# Altium integrated library ON Semi General Purpose Transistors.IntLib: 1679 symbols (part 10 of 36)
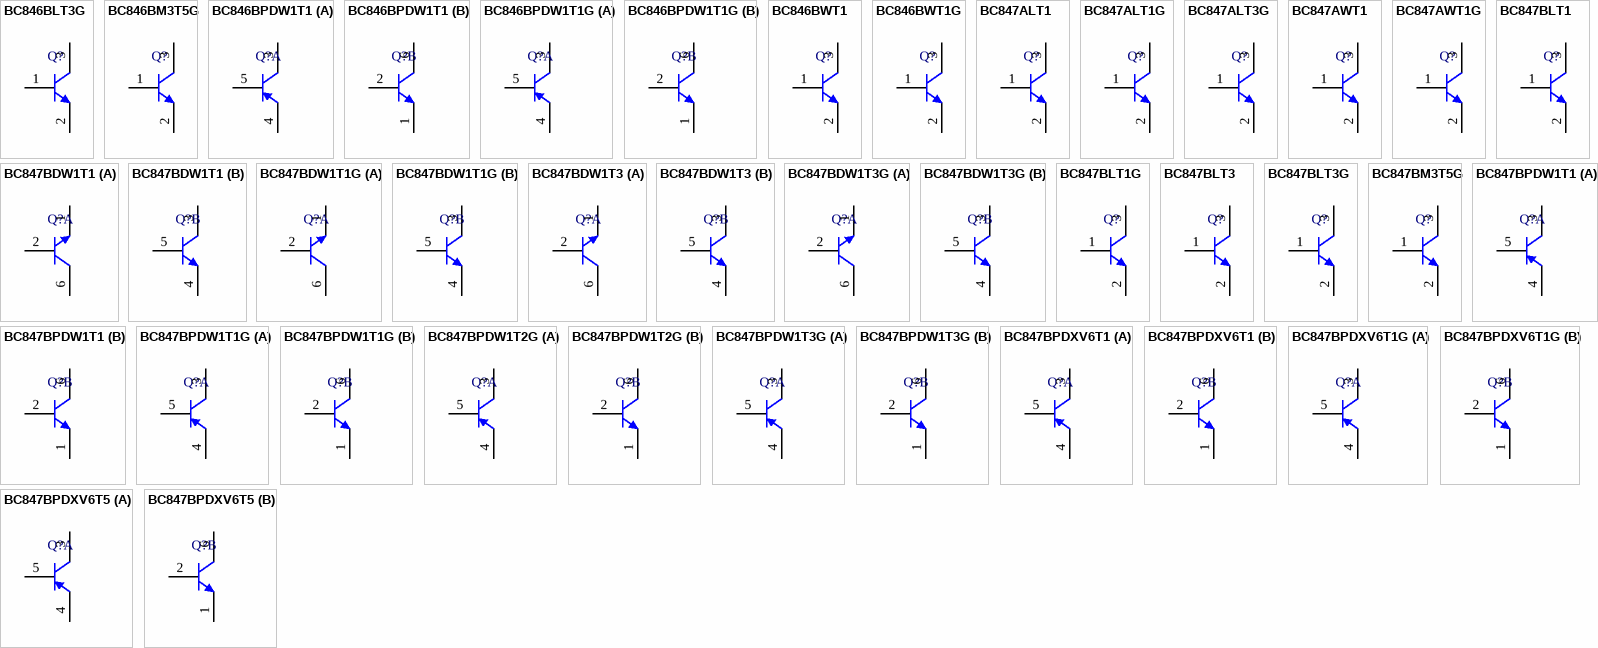
[diagram p54: symbols BC846BLT3G to BC847BPDXV6T5]

## BC846BWT1
designator Q?
General Purpose Transistor, NPN Silicon, 3-Pin SC70, Tape and Reel; Manufacturer: On Semiconductor; PartNumber: BC846BWT1; Note: 0; fT Min (MHz): 100; IC Continuous (A): 0.1; DatasheetVersion: Rev. 9; PackageVersion: Rev. N, 11/2008; PackageReference: SC-70-3-419-04; PackageDescription: 3-Pin Small Outline Transistor, Body 2 x 1.25 mm, Pitch 0.65 mm; Packing: Tape and Reel; Polarity: NPN; RoHS: FALSE; Mounting Technology: Surface Mount; ComponentLink1Description: Manufacturer URL; ComponentLink1URL: http://www.onsemi.com/; ComponentLink2Description: Datasheet; ComponentLink2URL: http://www.onsemi.cn/pub_link/Collateral/BC846AWT1-D.PDF; ComponentLink3Description: Package Specification; ComponentLink3URL: http://www.onsemi.cn/pub_link/Collateral/419-04.PDF
footprint ONSC-SC-70-3-419-04_V (SOT23, 3-Leads, Body 2x1.25mm, Pitch 0.65mm)
pins: 1 B, 2 E, 3 C

## BC846BWT1G
designator Q?
General Purpose Transistor, NPN Silicon, 3-Pin SC70, Pb-Free, Tape and Reel; Manufacturer: On Semiconductor; PartNumber: BC846BWT1G; fT Min (MHz): 100; IC Continuous (A): 0.1; DatasheetVersion: Rev. 9; PackageVersion: Rev. N, 11/2008; PackageReference: SC-70-3-419-04; PackageDescription: 3-Pin Small Outline Transistor, Body 2 x 1.25 mm, Pitch 0.65 mm; Supplier 1: Digi-Key; Supplier Part Number 1: BC846BWT1GOSTR-ND; Supplier 2: Digi-Key; Supplier Part Number 2: BC846BWT1GOSCT-ND; Supplier 3: Digi-Key; Supplier Part Number 3: BC846BWT1GOSDKR-ND; Supplier 4: Farnell; Supplier Part Number 4: 2317836; Supplier 5: Farnell; Supplier Part Number 5: 1653606RL; Supplier 6: Farnell; Supplier Part Number 6: 1653606; Supplier 7: Mouser; Supplier Part Number 7: 863-BC846BWT1G; Packing: Tape and Reel; Polarity: NPN; RoHS: TRUE; Mounting Technology: Surface Mount; ComponentLink1Description: Manufacturer URL; ComponentLink1URL: http://www.onsemi.com/; ComponentLink2Description: Datasheet; ComponentLink2URL: http://www.onsemi.cn/pub_link/Collateral/BC846AWT1-D.PDF; ComponentLink3Description: Package Specification; ComponentLink3URL: http://www.onsemi.cn/pub_link/Collateral/419-04.PDF
footprint ONSC-SC-70-3-419-04_V (SOT23, 3-Leads, Body 2x1.25mm, Pitch 0.65mm)
pins: 1 B, 2 E, 3 C

## BC847ALT1
designator Q?
General Purpose Transistor, NPN Silicon, 3-Pin SOT-23, Tape and Reel; Manufacturer: On Semiconductor; PartNumber: BC847ALT1; fT Min (MHz): 100; IC Continuous (A): 0.1; DatasheetVersion: Rev. 11; PackageVersion: Rev. AP, 11/2009; PackageReference: SOT-23-3-318-08; PackageDescription: 3-Pin Small Outline Transistor, Body 2.92 x 1.3 mm, Pitch 0.95 mm; Supplier 1: Digi-Key; Supplier Part Number 1: BC847ALT1OSCT-ND; Packing: Tape and Reel; Polarity: NPN; RoHS: FALSE; Mounting Technology: Surface Mount; ComponentLink1Description: Manufacturer URL; ComponentLink1URL: http://www.onsemi.com/; ComponentLink2Description: Datasheet; ComponentLink2URL: http://www.onsemi.cn/pub_link/Collateral/BC846ALT1-D.PDF; ComponentLink3Description: Package Specification; ComponentLink3URL: http://www.onsemi.cn/pub_link/Collateral/318-08.PDF
footprint ONSC-SOT-23-3-318-08_V (SOT23, 3-Leads, Body 2.92x1.3mm, Pitch 0.95mm)
pins: 1 B, 2 E, 3 C

## BC847ALT1G
designator Q?
General Purpose Transistor, NPN Silicon, 3-Pin SOT-23, Pb-Free, Tape and Reel; Manufacturer: On Semiconductor; PartNumber: BC847ALT1G; fT Min (MHz): 100; IC Continuous (A): 0.1; DatasheetVersion: Rev. 11; PackageVersion: Rev. AP, 11/2009; PackageReference: SOT-23-3-318-08; PackageDescription: 3-Pin Small Outline Transistor, Body 2.92 x 1.3 mm, Pitch 0.95 mm; Supplier 1: Digi-Key; Supplier Part Number 1: BC847ALT1GOSTR-ND; Supplier 2: Digi-Key; Supplier Part Number 2: BC847ALT1GOSCT-ND; Supplier 3: Digi-Key; Supplier Part Number 3: BC847ALT1GOSDKR-ND; Supplier 4: Farnell; Supplier Part Number 4: 2317842; Supplier 5: Farnell; Supplier Part Number 5: 1459037RL; Supplier 6: Farnell; Supplier Part Number 6: 1459037; Supplier 7: Newark; Supplier Part Number 7: 85W3115; Supplier 8: Newark; Supplier Part Number 8: 45J0589; Supplier 9: Mouser; Supplier Part Number 9: 863-BC847ALT1G; Packing: Tape and Reel; Polarity: NPN; RoHS: TRUE; Mounting Technology: Surface Mount; ComponentLink1Description: Manufacturer URL; ComponentLink1URL: http://www.onsemi.com/; ComponentLink2Description: Datasheet; ComponentLink2URL: http://www.onsemi.cn/pub_link/Collateral/BC846ALT1-D.PDF; ComponentLink3Description: Package Specification; ComponentLink3URL: http://www.onsemi.cn/pub_link/Collateral/318-08.PDF
footprint ONSC-SOT-23-3-318-08_V (SOT23, 3-Leads, Body 2.92x1.3mm, Pitch 0.95mm)
pins: 1 B, 2 E, 3 C

## BC847ALT3G
designator Q?
General Purpose Transistor, NPN Silicon, 3-Pin SOT-23, Pb-Free, Tape and Reel; Manufacturer: On Semiconductor; PartNumber: BC847ALT3G; Note: 0; fT Min (MHz): 100; IC Continuous (A): 0.1; DatasheetVersion: Rev. 11; PackageVersion: Rev. AP, 11/2009; PackageReference: SOT-23-3-318-08; PackageDescription: 3-Pin Small Outline Transistor, Body 2.92 x 1.3 mm, Pitch 0.95 mm; Packing: Tape and Reel; Polarity: NPN; RoHS: TRUE; Mounting Technology: Surface Mount; ComponentLink1Description: Manufacturer URL; ComponentLink1URL: http://www.onsemi.com/; ComponentLink2Description: Datasheet; ComponentLink2URL: http://www.onsemi.cn/pub_link/Collateral/BC846ALT1-D.PDF; ComponentLink3Description: Package Specification; ComponentLink3URL: http://www.onsemi.cn/pub_link/Collateral/318-08.PDF
footprint ONSC-SOT-23-3-318-08_V (SOT23, 3-Leads, Body 2.92x1.3mm, Pitch 0.95mm)
pins: 1 B, 2 E, 3 C

## BC847AWT1
designator Q?
General Purpose Transistor, NPN Silicon, 3-Pin SC70, Tape and Reel; Manufacturer: On Semiconductor; PartNumber: BC847AWT1; Note: 0; fT Min (MHz): 100; IC Continuous (A): 0.1; DatasheetVersion: Rev. 9; PackageVersion: Rev. N, 11/2008; PackageReference: SC-70-3-419-04; PackageDescription: 3-Pin Small Outline Transistor, Body 2 x 1.25 mm, Pitch 0.65 mm; Packing: Tape and Reel; Polarity: NPN; RoHS: FALSE; Mounting Technology: Surface Mount; ComponentLink1Description: Manufacturer URL; ComponentLink1URL: http://www.onsemi.com/; ComponentLink2Description: Datasheet; ComponentLink2URL: http://www.onsemi.cn/pub_link/Collateral/BC846AWT1-D.PDF; ComponentLink3Description: Package Specification; ComponentLink3URL: http://www.onsemi.cn/pub_link/Collateral/419-04.PDF
footprint ONSC-SC-70-3-419-04_V (SOT23, 3-Leads, Body 2x1.25mm, Pitch 0.65mm)
pins: 1 B, 2 E, 3 C

## BC847AWT1G
designator Q?
General Purpose Transistor, NPN Silicon, 3-Pin SC70, Pb-Free, Tape and Reel; Manufacturer: On Semiconductor; PartNumber: BC847AWT1G; fT Min (MHz): 100; IC Continuous (A): 0.1; DatasheetVersion: Rev. 9; PackageVersion: Rev. N, 11/2008; PackageReference: SC-70-3-419-04; PackageDescription: 3-Pin Small Outline Transistor, Body 2 x 1.25 mm, Pitch 0.65 mm; Supplier 1: Digi-Key; Supplier Part Number 1: BC847AWT1GOSTR-ND; Supplier 2: Digi-Key; Supplier Part Number 2: BC847AWT1GOSCT-ND; Supplier 3: Digi-Key; Supplier Part Number 3: BC847AWT1GOSDKR-ND; Supplier 4: Farnell; Supplier Part Number 4: 1260803; Supplier 5: Newark; Supplier Part Number 5: 45J0590; Supplier 6: Mouser; Supplier Part Number 6: 863-BC847AWT1G; Packing: Tape and Reel; Polarity: NPN; RoHS: TRUE; Mounting Technology: Surface Mount; ComponentLink1Description: Manufacturer URL; ComponentLink1URL: http://www.onsemi.com/; ComponentLink2Description: Datasheet; ComponentLink2URL: http://www.onsemi.cn/pub_link/Collateral/BC846AWT1-D.PDF; ComponentLink3Description: Package Specification; ComponentLink3URL: http://www.onsemi.cn/pub_link/Collateral/419-04.PDF
footprint ONSC-SC-70-3-419-04_V (SOT23, 3-Leads, Body 2x1.25mm, Pitch 0.65mm)
pins: 1 B, 2 E, 3 C

## BC847BDW1T1
designator Q?
Dual General Purpose Transistors, NPN, 6-Pin SOT-363, Tape and Reel; Manufacturer: On Semiconductor; PartNumber: BC847BDW1T1; Note: 0; fT Min (MHz): 100; IC Continuous (A): 0.1; Polarity: Dual NPN; DatasheetVersion: Rev. 9; PackageVersion: Rev. W, 01/2006; PackageReference: SOT-363-6-419B-02_W; PackageDescription: 6-Pin Small Outline Transistor, Body 2 x 1.25 mm, Pitch 0.65 mm; Packing: Tape and Reel; RoHS: FALSE; Mounting Technology: Surface Mount; ComponentLink1Description: Manufacturer URL; ComponentLink1URL: http://www.onsemi.com/; ComponentLink2Description: Datasheet; ComponentLink2URL: http://www.onsemi.cn/pub_link/Collateral/BC846BDW1T1-D.PDF; ComponentLink3Description: Package Specification; ComponentLink3URL: http://www.onsemi.com/pub_link/Collateral/NTJD4001N-D.PDF
footprint ONSC-SOT-363-6-419B-02_W_V (SOT23, 6-Leads, Body 2x1.25mm, Pitch 0.65mm)
part A pins: 1 E, 2 B, 6 C
part B pins: 3 C, 4 E, 5 B

## BC847BDW1T1G
designator Q?
Dual General Purpose Transistors, NPN, 6-Pin SOT-363, Pb-Free, Tape and Reel; Manufacturer: On Semiconductor; PartNumber: BC847BDW1T1G; fT Min (MHz): 100; IC Continuous (A): 0.1; Polarity: Dual NPN; DatasheetVersion: Rev. 9; PackageVersion: Rev. W, 01/2006; PackageReference: SOT-363-6-419B-02_W; PackageDescription: 6-Pin Small Outline Transistor, Body 2 x 1.25 mm, Pitch 0.65 mm; Supplier 1: Digi-Key; Supplier Part Number 1: BC847BDW1T1GOSTR-ND; Supplier 2: Digi-Key; Supplier Part Number 2: BC847BDW1T1GOSCT-ND; Supplier 3: Digi-Key; Supplier Part Number 3: BC847BDW1T1GOSDKR-ND; Supplier 4: Farnell; Supplier Part Number 4: 2317919; Supplier 5: Farnell; Supplier Part Number 5: 2101801; Supplier 6: Mouser; Supplier Part Number 6: 863-BC847BDW1T1G; Packing: Tape and Reel; RoHS: TRUE; Mounting Technology: Surface Mount; ComponentLink1Description: Manufacturer URL; ComponentLink1URL: http://www.onsemi.com/; ComponentLink2Description: Datasheet; ComponentLink2URL: http://www.onsemi.cn/pub_link/Collateral/BC846BDW1T1-D.PDF; ComponentLink3Description: Package Specification; ComponentLink3URL: http://www.onsemi.com/pub_link/Collateral/NTJD4001N-D.PDF
footprint ONSC-SOT-363-6-419B-02_W_V (SOT23, 6-Leads, Body 2x1.25mm, Pitch 0.65mm)
part A pins: 1 E, 2 B, 6 C
part B pins: 3 C, 4 E, 5 B

## BC847BDW1T3
designator Q?
Dual General Purpose Transistors, NPN, 6-Pin SOT-363, Tape and Reel; Manufacturer: On Semiconductor; PartNumber: BC847BDW1T3; Note: 0; fT Min (MHz): 100; IC Continuous (A): 0.1; Polarity: Dual NPN; DatasheetVersion: Rev. 9; PackageVersion: Rev. W, 01/2006; PackageReference: SOT-363-6-419B-02_W; PackageDescription: 6-Pin Small Outline Transistor, Body 2 x 1.25 mm, Pitch 0.65 mm; Packing: Tape and Reel; RoHS: FALSE; Mounting Technology: Surface Mount; ComponentLink1Description: Manufacturer URL; ComponentLink1URL: http://www.onsemi.com/; ComponentLink2Description: Datasheet; ComponentLink2URL: http://www.onsemi.cn/pub_link/Collateral/BC846BDW1T1-D.PDF; ComponentLink3Description: Package Specification; ComponentLink3URL: http://www.onsemi.com/pub_link/Collateral/NTJD4001N-D.PDF
footprint ONSC-SOT-363-6-419B-02_W_V (SOT23, 6-Leads, Body 2x1.25mm, Pitch 0.65mm)
part A pins: 1 E, 2 B, 6 C
part B pins: 3 C, 4 E, 5 B

## BC847BDW1T3G
designator Q?
Dual General Purpose Transistors, NPN, 6-Pin SOT-363, Pb-Free, Tape and Reel; Manufacturer: On Semiconductor; PartNumber: BC847BDW1T3G; fT Min (MHz): 100; IC Continuous (A): 0.1; Polarity: Dual NPN; DatasheetVersion: Rev. 9; PackageVersion: Rev. W, 01/2006; PackageReference: SOT-363-6-419B-02_W; PackageDescription: 6-Pin Small Outline Transistor, Body 2 x 1.25 mm, Pitch 0.65 mm; Supplier 1: Digi-Key; Supplier Part Number 1: BC847BDW1T3GOSTR-ND; Supplier 2: Digi-Key; Supplier Part Number 2: BC847BDW1T3GOSCT-ND; Supplier 3: Digi-Key; Supplier Part Number 3: BC847BDW1T3GOSDKR-ND; Supplier 4: Newark; Supplier Part Number 4: 41K9604; Supplier 5: Mouser; Supplier Part Number 5: 863-BC847BDW1T3G; Packing: Tape and Reel; RoHS: TRUE; Mounting Technology: Surface Mount; ComponentLink1Description: Manufacturer URL; ComponentLink1URL: http://www.onsemi.com/; ComponentLink2Description: Datasheet; ComponentLink2URL: http://www.onsemi.cn/pub_link/Collateral/BC846BDW1T1-D.PDF; ComponentLink3Description: Package Specification; ComponentLink3URL: http://www.onsemi.com/pub_link/Collateral/NTJD4001N-D.PDF
footprint ONSC-SOT-363-6-419B-02_W_V (SOT23, 6-Leads, Body 2x1.25mm, Pitch 0.65mm)
part A pins: 1 E, 2 B, 6 C
part B pins: 3 C, 4 E, 5 B

## BC847BLT1
designator Q?
General Purpose Transistor, NPN Silicon, 3-Pin SOT-23, Tape and Reel; Manufacturer: On Semiconductor; PartNumber: BC847BLT1; fT Min (MHz): 100; IC Continuous (A): 0.1; DatasheetVersion: Rev. 11; PackageVersion: Rev. AP, 11/2009; PackageReference: SOT-23-3-318-08; PackageDescription: 3-Pin Small Outline Transistor, Body 2.92 x 1.3 mm, Pitch 0.95 mm; Supplier 1: Digi-Key; Supplier Part Number 1: BC847BLT1OSCT-ND; Packing: Tape and Reel; Polarity: NPN; RoHS: FALSE; Mounting Technology: Surface Mount; ComponentLink1Description: Manufacturer URL; ComponentLink1URL: http://www.onsemi.com/; ComponentLink2Description: Datasheet; ComponentLink2URL: http://www.onsemi.cn/pub_link/Collateral/BC846ALT1-D.PDF; ComponentLink3Description: Package Specification; ComponentLink3URL: http://www.onsemi.cn/pub_link/Collateral/318-08.PDF
footprint ONSC-SOT-23-3-318-08_V (SOT23, 3-Leads, Body 2.92x1.3mm, Pitch 0.95mm)
pins: 1 B, 2 E, 3 C

## BC847BLT1G
designator Q?
General Purpose Transistor, NPN Silicon, 3-Pin SOT-23, Pb-Free, Tape and Reel; Manufacturer: On Semiconductor; PartNumber: BC847BLT1G; fT Min (MHz): 100; IC Continuous (A): 0.1; DatasheetVersion: Rev. 11; PackageVersion: Rev. AP, 11/2009; PackageReference: SOT-23-3-318-08; PackageDescription: 3-Pin Small Outline Transistor, Body 2.92 x 1.3 mm, Pitch 0.95 mm; Supplier 1: Digi-Key; Supplier Part Number 1: BC847BLT1GOSTR-ND; Supplier 2: Digi-Key; Supplier Part Number 2: BC847BLT1GOSCT-ND; Supplier 3: Digi-Key; Supplier Part Number 3: BC847BLT1GOSDKR-ND; Supplier 4: Farnell; Supplier Part Number 4: 2317816; Supplier 5: Newark; Supplier Part Number 5: 67R1293; Supplier 6: Newark; Supplier Part Number 6: 88H4566; Supplier 7: Mouser; Supplier Part Number 7: 863-BC847BLT1G; Packing: Tape and Reel; Polarity: NPN; RoHS: TRUE; Mounting Technology: Surface Mount; ComponentLink1Description: Manufacturer URL; ComponentLink1URL: http://www.onsemi.com/; ComponentLink2Description: Datasheet; ComponentLink2URL: http://www.onsemi.cn/pub_link/Collateral/BC846ALT1-D.PDF; ComponentLink3Description: Package Specification; ComponentLink3URL: http://www.onsemi.cn/pub_link/Collateral/318-08.PDF
footprint ONSC-SOT-23-3-318-08_V (SOT23, 3-Leads, Body 2.92x1.3mm, Pitch 0.95mm)
pins: 1 B, 2 E, 3 C

## BC847BLT3
designator Q?
General Purpose Transistor, NPN Silicon, 3-Pin SOT-23, Tape and Reel; Manufacturer: On Semiconductor; PartNumber: BC847BLT3; fT Min (MHz): 100; IC Continuous (A): 0.1; DatasheetVersion: Rev. 11; PackageVersion: Rev. AP, 11/2009; PackageReference: SOT-23-3-318-08; PackageDescription: 3-Pin Small Outline Transistor, Body 2.92 x 1.3 mm, Pitch 0.95 mm; Supplier 1: Digi-Key; Supplier Part Number 1: BC847BLT3-ND; Packing: Tape and Reel; Polarity: NPN; RoHS: FALSE; Mounting Technology: Surface Mount; ComponentLink1Description: Manufacturer URL; ComponentLink1URL: http://www.onsemi.com/; ComponentLink2Description: Datasheet; ComponentLink2URL: http://www.onsemi.cn/pub_link/Collateral/BC846ALT1-D.PDF; ComponentLink3Description: Package Specification; ComponentLink3URL: http://www.onsemi.cn/pub_link/Collateral/318-08.PDF
footprint ONSC-SOT-23-3-318-08_V (SOT23, 3-Leads, Body 2.92x1.3mm, Pitch 0.95mm)
pins: 1 B, 2 E, 3 C

## BC847BLT3G
designator Q?
General Purpose Transistor, NPN Silicon, 3-Pin SOT-23, Pb-Free, Tape and Reel; Manufacturer: On Semiconductor; PartNumber: BC847BLT3G; fT Min (MHz): 100; IC Continuous (A): 0.1; DatasheetVersion: Rev. 11; PackageVersion: Rev. AP, 11/2009; PackageReference: SOT-23-3-318-08; PackageDescription: 3-Pin Small Outline Transistor, Body 2.92 x 1.3 mm, Pitch 0.95 mm; Supplier 1: Digi-Key; Supplier Part Number 1: BC847BLT3GOSTR-ND; Supplier 2: Digi-Key; Supplier Part Number 2: BC847BLT3GOSCT-ND; Supplier 3: Digi-Key; Supplier Part Number 3: BC847BLT3GOSDKR-ND; Supplier 4: Newark; Supplier Part Number 4: 88H4567; Supplier 5: Mouser; Supplier Part Number 5: 863-BC847BLT3G; Packing: Tape and Reel; Polarity: NPN; RoHS: TRUE; Mounting Technology: Surface Mount; ComponentLink1Description: Manufacturer URL; ComponentLink1URL: http://www.onsemi.com/; ComponentLink2Description: Datasheet; ComponentLink2URL: http://www.onsemi.cn/pub_link/Collateral/BC846ALT1-D.PDF; ComponentLink3Description: Package Specification; ComponentLink3URL: http://www.onsemi.cn/pub_link/Collateral/318-08.PDF
footprint ONSC-SOT-23-3-318-08_V (SOT23, 3-Leads, Body 2.92x1.3mm, Pitch 0.95mm)
pins: 1 B, 2 E, 3 C

## BC847BM3T5G
designator Q?
General Purpose Transistor, NPN Silicon, 3-Pin SOT-723, Pb-Free, Tape and Reel; Manufacturer: On Semiconductor; PartNumber: BC847BM3T5G; fT Min (MHz): 100; IC Continuous (A): 0.1; DatasheetVersion: Rev. 0; PackageVersion: Rev. C, 08/2006; PackageReference: SOT-723-3-631AA-01_C; PackageDescription: 3-Pin SOT223, Body 0.8 x 1.2 mm, Pitch 0.4 mm; Supplier 1: Digi-Key; Supplier Part Number 1: BC847BM3T5GOSTR-ND; Supplier 2: Digi-Key; Supplier Part Number 2: BC847BM3T5GOSCT-ND; Supplier 3: Digi-Key; Supplier Part Number 3: BC847BM3T5GOSDKR-ND; Supplier 4: Newark; Supplier Part Number 4: 55M8733; Supplier 5: Mouser; Supplier Part Number 5: 863-BC847BM3T5G; Packing: Tape and Reel; Polarity: NPN; RoHS: TRUE; Mounting Technology: Surface Mount; ComponentLink1Description: Manufacturer URL; ComponentLink1URL: http://www.onsemi.com/; ComponentLink2Description: Datasheet; ComponentLink2URL: http://www.onsemi.com/pub_link/Collateral/BC847BM3-D.PDF; ComponentLink3Description: Package Specification; ComponentLink3URL: http://www.onsemi.cn/pub_link/Collateral/BAT54M3-D.PDF
footprint ONSC-SOT-723-3-631AA-01_C_V (SOT23, 3-Leads, Body 1.25x0.85mm, Pitch 0.4mm)
pins: 1 B, 2 E, 3 C

## BC847BPDW1T1
designator Q?
Dual General Purpose Transistors, NPN / PNP (Complementary), 6-Pin SOT-363, Tape and Reel; Manufacturer: On Semiconductor; PartNumber: BC847BPDW1T1; Note: 0; fT Min (MHz): 100; IC Continuous (A): 0.1; DatasheetVersion: Rev. 9; PackageVersion: Rev. Y, 12/2012; PackageReference: SOT-363-6-419B-02; PackageDescription: 6-Pin Small Outline Transistor, Body 2 x 1.25 mm, Pitch 0.65 mm; Packing: Tape and Reel; Polarity: Complementary; RoHS: FALSE; Mounting Technology: Surface Mount; ComponentLink1Description: Manufacturer URL; ComponentLink1URL: http://www.onsemi.com/; ComponentLink2Description: Datasheet; ComponentLink2URL: http://www.onsemi.cn/pub_link/Collateral/BC846BPDW1T1-D.PDF; ComponentLink3Description: Package Specification; ComponentLink3URL: http://www.onsemi.cn/pub_link/Collateral/419B-02.PDF
footprint ONSC-SOT-363-6-419B-02_V (SOT23, 6-Leads, Body 2x1.25mm, Pitch 0.65mm)
part A pins: 3 C, 4 E, 5 B
part B pins: 1 E, 2 B, 6 C

## BC847BPDW1T1G
designator Q?
Dual General Purpose Transistors, NPN / PNP (Complementary), 6-Pin SOT-363, Pb-Free, Tape and Reel; Manufacturer: On Semiconductor; PartNumber: BC847BPDW1T1G; fT Min (MHz): 100; IC Continuous (A): 0.1; DatasheetVersion: Rev. 9; PackageVersion: Rev. Y, 12/2012; PackageReference: SOT-363-6-419B-02; PackageDescription: 6-Pin Small Outline Transistor, Body 2 x 1.25 mm, Pitch 0.65 mm; Supplier 1: Digi-Key; Supplier Part Number 1: BC847BPDW1T1GOSTR-ND; Supplier 2: Digi-Key; Supplier Part Number 2: BC847BPDW1T1GOSCT-ND; Supplier 3: Digi-Key; Supplier Part Number 3: BC847BPDW1T1GOSDKR-ND; Supplier 4: Newark; Supplier Part Number 4: 45J0592; Supplier 5: Mouser; Supplier Part Number 5: 863-BC847BPDW1T1G; Packing: Tape and Reel; Polarity: Complementary; RoHS: TRUE; Mounting Technology: Surface Mount; ComponentLink1Description: Manufacturer URL; ComponentLink1URL: http://www.onsemi.com/; ComponentLink2Description: Datasheet; ComponentLink2URL: http://www.onsemi.cn/pub_link/Collateral/BC846BPDW1T1-D.PDF; ComponentLink3Description: Package Specification; ComponentLink3URL: http://www.onsemi.cn/pub_link/Collateral/419B-02.PDF
footprint ONSC-SOT-363-6-419B-02_V (SOT23, 6-Leads, Body 2x1.25mm, Pitch 0.65mm)
part A pins: 3 C, 4 E, 5 B
part B pins: 1 E, 2 B, 6 C

## BC847BPDW1T2G
designator Q?
Dual General Purpose Transistors, NPN / PNP (Complementary), 6-Pin SOT-363, Pb-Free, Tape and Reel; Manufacturer: On Semiconductor; PartNumber: BC847BPDW1T2G; fT Min (MHz): 100; IC Continuous (A): 0.1; DatasheetVersion: Rev. 9; PackageVersion: Rev. Y, 12/2012; PackageReference: SOT-363-6-419B-02; PackageDescription: 6-Pin Small Outline Transistor, Body 2 x 1.25 mm, Pitch 0.65 mm; Supplier 1: Digi-Key; Supplier Part Number 1: BC847BPDW1T2G-ND; Supplier 2: Mouser; Supplier Part Number 2: 863-BC847BPDW1T2G; Packing: Tape and Reel; Polarity: Complementary; RoHS: TRUE; Mounting Technology: Surface Mount; ComponentLink1Description: Manufacturer URL; ComponentLink1URL: http://www.onsemi.com/; ComponentLink2Description: Datasheet; ComponentLink2URL: http://www.onsemi.cn/pub_link/Collateral/BC846BPDW1T1-D.PDF; ComponentLink3Description: Package Specification; ComponentLink3URL: http://www.onsemi.cn/pub_link/Collateral/419B-02.PDF
footprint ONSC-SOT-363-6-419B-02_V (SOT23, 6-Leads, Body 2x1.25mm, Pitch 0.65mm)
part A pins: 3 C, 4 E, 5 B
part B pins: 1 E, 2 B, 6 C

## BC847BPDW1T3G
designator Q?
Dual General Purpose Transistors, NPN / PNP (Complementary), 6-Pin SOT-363, Pb-Free, Tape and Reel; Manufacturer: On Semiconductor; PartNumber: BC847BPDW1T3G; fT Min (MHz): 100; IC Continuous (A): 0.1; DatasheetVersion: Rev. 9; PackageVersion: Rev. Y, 12/2012; PackageReference: SOT-363-6-419B-02; PackageDescription: 6-Pin Small Outline Transistor, Body 2 x 1.25 mm, Pitch 0.65 mm; Supplier 1: Digi-Key; Supplier Part Number 1: BC847BPDW1T3G-ND; Supplier 2: Mouser; Supplier Part Number 2: 863-BC847BPDW1T3G; Packing: Tape and Reel; Polarity: Complementary; RoHS: TRUE; Mounting Technology: Surface Mount; ComponentLink1Description: Manufacturer URL; ComponentLink1URL: http://www.onsemi.com/; ComponentLink2Description: Datasheet; ComponentLink2URL: http://www.onsemi.cn/pub_link/Collateral/BC846BPDW1T1-D.PDF; ComponentLink3Description: Package Specification; ComponentLink3URL: http://www.onsemi.cn/pub_link/Collateral/419B-02.PDF
footprint ONSC-SOT-363-6-419B-02_V (SOT23, 6-Leads, Body 2x1.25mm, Pitch 0.65mm)
part A pins: 3 C, 4 E, 5 B
part B pins: 1 E, 2 B, 6 C

## BC847BPDXV6T1
designator Q?
NPN / PNP Dual General Purpose Transistors, 6-Pin SOT-563, Pb-Free, Tape and Reel; Manufacturer: On Semiconductor; PartNumber: BC847BPDXV6T1; fT Min (MHz): 100; IC Continuous (A): 0.1; Polarity: Complementary; DatasheetVersion: Rev. 2; PackageVersion: Rev. F, 04/2005; PackageReference: SOT-563-6-463A-01; PackageDescription: 6-Pin Small Outline Transistor, Body 1.6 x 1.2 mm, Pitch 0.5 mm; Supplier 1: Digi-Key; Supplier Part Number 1: BC847BPDXV6T1OS-ND; Supplier 2: Mouser; Supplier Part Number 2: 863-BC847BPDXV6T1; Packing: Tape and Reel; RoHS: TRUE; Mounting Technology: Surface Mount; ComponentLink1Description: Manufacturer URL; ComponentLink1URL: http://www.onsemi.com/; ComponentLink2Description: Datasheet; ComponentLink2URL: http://www.onsemi.com/pub_link/Collateral/BC847BPDXV6T1-D.PDF; ComponentLink3Description: Package Specification; ComponentLink3URL: http://www.onsemi.cn/pub_link/Collateral/463A-01.PDF
footprint ONSC-SOT-563-6-463A-01_V (SOT23, 6-Leads, Body 1.6x1.2mm, Pitch 0.5mm)
part A pins: 3 C, 4 E, 5 B
part B pins: 1 E, 2 B, 6 C

## BC847BPDXV6T1G
designator Q?
NPN / PNP Dual General Purpose Transistors, 6-Pin SOT-563, Pb-Free, Tape and Reel; Manufacturer: On Semiconductor; PartNumber: BC847BPDXV6T1G; fT Min (MHz): 100; IC Continuous (A): 0.1; Polarity: Complementary; DatasheetVersion: Rev. 2; PackageVersion: Rev. F, 04/2005; PackageReference: SOT-563-6-463A-01; PackageDescription: 6-Pin Small Outline Transistor, Body 1.6 x 1.2 mm, Pitch 0.5 mm; Supplier 1: Digi-Key; Supplier Part Number 1: BC847BPDXV6T1GOSTR-ND; Supplier 2: Digi-Key; Supplier Part Number 2: BC847BPDXV6T1GOSCT-ND; Supplier 3: Digi-Key; Supplier Part Number 3: BC847BPDXV6T1GOSDKR-ND; Supplier 4: Newark; Supplier Part Number 4: 41K9605; Supplier 5: Mouser; Supplier Part Number 5: 863-BC847BPDXV6T1G; Packing: Tape and Reel; RoHS: TRUE; Mounting Technology: Surface Mount; ComponentLink1Description: Manufacturer URL; ComponentLink1URL: http://www.onsemi.com/; ComponentLink2Description: Datasheet; ComponentLink2URL: http://www.onsemi.com/pub_link/Collateral/BC847BPDXV6T1-D.PDF; ComponentLink3Description: Package Specification; ComponentLink3URL: http://www.onsemi.cn/pub_link/Collateral/463A-01.PDF
footprint ONSC-SOT-563-6-463A-01_V (SOT23, 6-Leads, Body 1.6x1.2mm, Pitch 0.5mm)
part A pins: 3 C, 4 E, 5 B
part B pins: 1 E, 2 B, 6 C

## BC847BPDXV6T5
designator Q?
NPN / PNP Dual General Purpose Transistors, 6-Pin SOT-563, Pb-Free, Tape and Reel; Manufacturer: On Semiconductor; PartNumber: BC847BPDXV6T5; fT Min (MHz): 100; IC Continuous (A): 0.1; Polarity: Complementary; DatasheetVersion: Rev. 2; PackageVersion: Rev. F, 04/2005; PackageReference: SOT-563-6-463A-01; PackageDescription: 6-Pin Small Outline Transistor, Body 1.6 x 1.2 mm, Pitch 0.5 mm; Supplier 1: Mouser; Supplier Part Number 1: 863-BC847BPDXV6T5; Packing: Tape and Reel; RoHS: TRUE; Mounting Technology: Surface Mount; ComponentLink1Description: Manufacturer URL; ComponentLink1URL: http://www.onsemi.com/; ComponentLink2Description: Datasheet; ComponentLink2URL: http://www.onsemi.com/pub_link/Collateral/BC847BPDXV6T1-D.PDF; ComponentLink3Description: Package Specification; ComponentLink3URL: http://www.onsemi.cn/pub_link/Collateral/463A-01.PDF
footprint ONSC-SOT-563-6-463A-01_V (SOT23, 6-Leads, Body 1.6x1.2mm, Pitch 0.5mm)
part A pins: 3 C, 4 E, 5 B
part B pins: 1 E, 2 B, 6 C

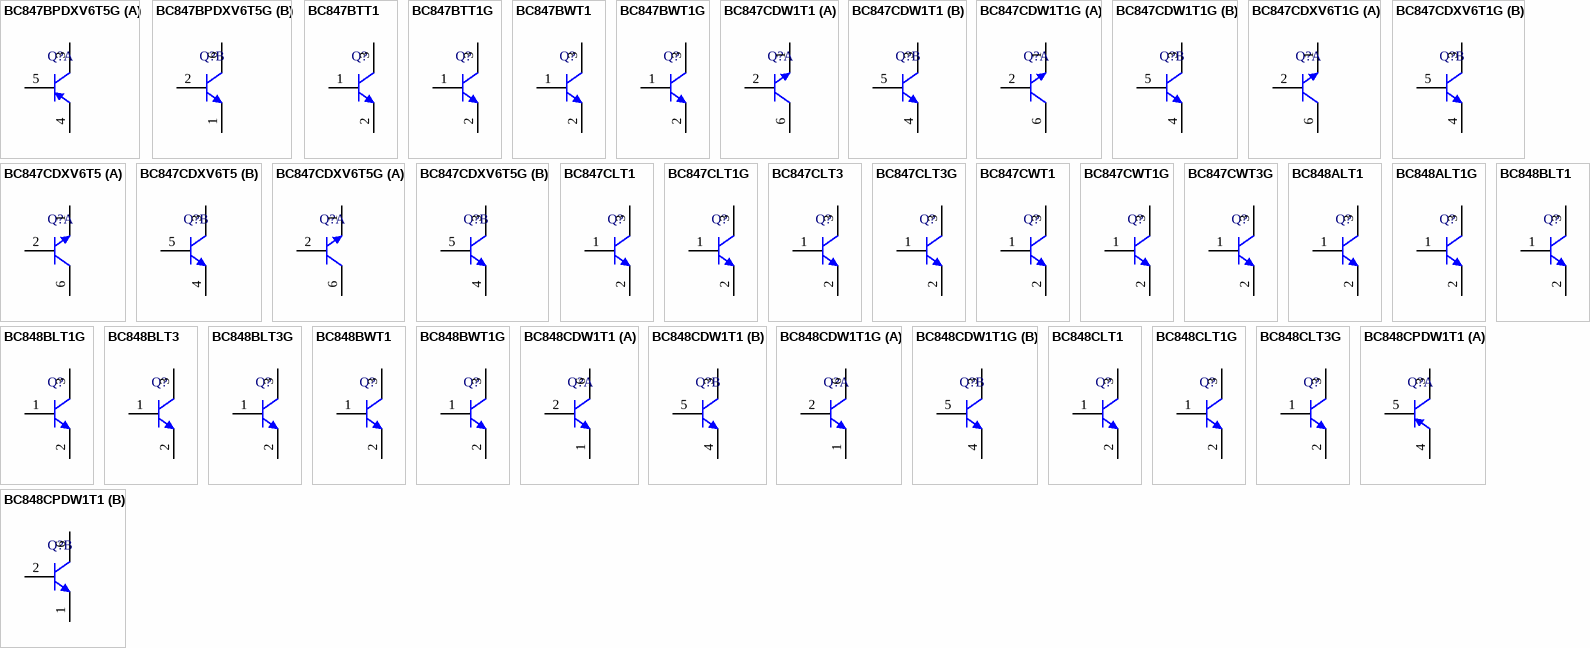
[diagram p12: symbols BC847BPDXV6T5G to BC848CPDW1T1]

## BC847BPDXV6T5G
designator Q?
NPN / PNP Dual General Purpose Transistors, 6-Pin SOT-563, Pb-Free, Tape and Reel; Manufacturer: On Semiconductor; PartNumber: BC847BPDXV6T5G; fT Min (MHz): 100; IC Continuous (A): 0.1; Polarity: Complementary; DatasheetVersion: Rev. 2; PackageVersion: Rev. F, 04/2005; PackageReference: SOT-563-6-463A-01; PackageDescription: 6-Pin Small Outline Transistor, Body 1.6 x 1.2 mm, Pitch 0.5 mm; Supplier 1: Digi-Key; Supplier Part Number 1: BC847BPDXV6T5G-ND; Supplier 2: Mouser; Supplier Part Number 2: 863-BC847BPDXV6T5G; Packing: Tape and Reel; RoHS: TRUE; Mounting Technology: Surface Mount; ComponentLink1Description: Manufacturer URL; ComponentLink1URL: http://www.onsemi.com/; ComponentLink2Description: Datasheet; ComponentLink2URL: http://www.onsemi.com/pub_link/Collateral/BC847BPDXV6T1-D.PDF; ComponentLink3Description: Package Specification; ComponentLink3URL: http://www.onsemi.cn/pub_link/Collateral/463A-01.PDF
footprint ONSC-SOT-563-6-463A-01_V (SOT23, 6-Leads, Body 1.6x1.2mm, Pitch 0.5mm)
part A pins: 3 C, 4 E, 5 B
part B pins: 1 E, 2 B, 6 C

## BC847BTT1
designator Q?
General Purpose Transistor, NPN Silicon, 3-Pin SC-75, Tape and Reel; Manufacturer: On Semiconductor; PartNumber: BC847BTT1; fT Min (MHz): 100; IC Continuous (A): 0.1; DatasheetVersion: Rev. 1; PackageVersion: Rev. C, 08/2003; PackageReference: SC-75-3-463-01_C; PackageDescription: 3-Pin Small Outline Transistor, Body 1.6 x 0.8 mm, Pitch 0.5 mm; Supplier 1: Digi-Key; Supplier Part Number 1: BC847BTT1OSTR-ND; Supplier 2: Digi-Key; Supplier Part Number 2: BC847BTT1OSCT-ND; Packing: Tape and Reel; Polarity: NPN; RoHS: FALSE; Mounting Technology: Surface Mount; ComponentLink1Description: Manufacturer URL; ComponentLink1URL: http://www.onsemi.com/; ComponentLink2Description: Datasheet; ComponentLink2URL: http://www.onsemi.cn/pub_link/Collateral/BC847ATT1-D.PDF; ComponentLink3Description: Package Specification; ComponentLink3URL: http://www.onsemi.com/pub_link/Collateral/BC847ATT1-D.PDF
footprint ONSC-SC-75-3-463-01_C_N (SOT23, 3-Leads, Body 1.8x0.9mm, Pitch 0.5mm, IPC Medium Density)
footprint ONSC-SC-75-3-463-01_C_L (SOT23, 3-Leads, Body 1.8x0.9mm, Pitch 0.5mm, IPC High Density)
footprint ONSC-SC-75-3-463-01_C_M (SOT23, 3-Leads, Body 1.8x0.9mm, Pitch 0.5mm, IPC Low Density)
pins: 1 B, 2 E, 3 C

## BC847BTT1G
designator Q?
General Purpose Transistor, NPN Silicon, 3-Pin SC-75, Pb-Free, Tape and Reel; Manufacturer: On Semiconductor; PartNumber: BC847BTT1G; fT Min (MHz): 100; IC Continuous (A): 0.1; DatasheetVersion: Rev. 1; PackageVersion: Rev. C, 08/2003; PackageReference: SC-75-3-463-01_C; PackageDescription: 3-Pin Small Outline Transistor, Body 1.6 x 0.8 mm, Pitch 0.5 mm; Supplier 1: Digi-Key; Supplier Part Number 1: BC847BTT1GOSTR-ND; Supplier 2: Digi-Key; Supplier Part Number 2: BC847BTT1GOSCT-ND; Supplier 3: Digi-Key; Supplier Part Number 3: BC847BTT1GOSDKR-ND; Supplier 4: Farnell; Supplier Part Number 4: 1705977; Supplier 5: Newark; Supplier Part Number 5: 50M2871; Supplier 6: Newark; Supplier Part Number 6: 45J0593; Supplier 7: Mouser; Supplier Part Number 7: 863-BC847BTT1G; Packing: Tape and Reel; Polarity: NPN; RoHS: TRUE; Mounting Technology: Surface Mount; ComponentLink1Description: Manufacturer URL; ComponentLink1URL: http://www.onsemi.com/; ComponentLink2Description: Datasheet; ComponentLink2URL: http://www.onsemi.cn/pub_link/Collateral/BC847ATT1-D.PDF; ComponentLink3Description: Package Specification; ComponentLink3URL: http://www.onsemi.com/pub_link/Collateral/BC847ATT1-D.PDF
footprint ONSC-SC-75-3-463-01_C_N (SOT23, 3-Leads, Body 1.8x0.9mm, Pitch 0.5mm, IPC Medium Density)
footprint ONSC-SC-75-3-463-01_C_L (SOT23, 3-Leads, Body 1.8x0.9mm, Pitch 0.5mm, IPC High Density)
footprint ONSC-SC-75-3-463-01_C_M (SOT23, 3-Leads, Body 1.8x0.9mm, Pitch 0.5mm, IPC Low Density)
pins: 1 B, 2 E, 3 C

## BC847BWT1
designator Q?
General Purpose Transistor, NPN Silicon, 3-Pin SC70, Tape and Reel; Manufacturer: On Semiconductor; PartNumber: BC847BWT1; Note: 0; fT Min (MHz): 100; IC Continuous (A): 0.1; DatasheetVersion: Rev. 9; PackageVersion: Rev. N, 11/2008; PackageReference: SC-70-3-419-04; PackageDescription: 3-Pin Small Outline Transistor, Body 2 x 1.25 mm, Pitch 0.65 mm; Packing: Tape and Reel; Polarity: NPN; RoHS: FALSE; Mounting Technology: Surface Mount; ComponentLink1Description: Manufacturer URL; ComponentLink1URL: http://www.onsemi.com/; ComponentLink2Description: Datasheet; ComponentLink2URL: http://www.onsemi.cn/pub_link/Collateral/BC846AWT1-D.PDF; ComponentLink3Description: Package Specification; ComponentLink3URL: http://www.onsemi.cn/pub_link/Collateral/419-04.PDF
footprint ONSC-SC-70-3-419-04_V (SOT23, 3-Leads, Body 2x1.25mm, Pitch 0.65mm)
pins: 1 B, 2 E, 3 C

## BC847BWT1G
designator Q?
General Purpose Transistor, NPN Silicon, 3-Pin SC70, Pb-Free, Tape and Reel; Manufacturer: On Semiconductor; PartNumber: BC847BWT1G; fT Min (MHz): 100; IC Continuous (A): 0.1; DatasheetVersion: Rev. 9; PackageVersion: Rev. N, 11/2008; PackageReference: SC-70-3-419-04; PackageDescription: 3-Pin Small Outline Transistor, Body 2 x 1.25 mm, Pitch 0.65 mm; Supplier 1: Digi-Key; Supplier Part Number 1: BC847BWT1GOSTR-ND; Supplier 2: Digi-Key; Supplier Part Number 2: BC847BWT1GOSCT-ND; Supplier 3: Digi-Key; Supplier Part Number 3: BC847BWT1GOSDKR-ND; Supplier 4: Farnell; Supplier Part Number 4: 2317899; Supplier 5: Farnell; Supplier Part Number 5: 1653703RL; Supplier 6: Farnell; Supplier Part Number 6: 1653703; Supplier 7: Newark; Supplier Part Number 7: 85W3116; Supplier 8: Newark; Supplier Part Number 8: 88H4568; Supplier 9: Mouser; Supplier Part Number 9: 863-BC847BWT1G; Packing: Tape and Reel; Polarity: NPN; RoHS: TRUE; Mounting Technology: Surface Mount; ComponentLink1Description: Manufacturer URL; ComponentLink1URL: http://www.onsemi.com/; ComponentLink2Description: Datasheet; ComponentLink2URL: http://www.onsemi.cn/pub_link/Collateral/BC846AWT1-D.PDF; ComponentLink3Description: Package Specification; ComponentLink3URL: http://www.onsemi.cn/pub_link/Collateral/419-04.PDF
footprint ONSC-SC-70-3-419-04_V (SOT23, 3-Leads, Body 2x1.25mm, Pitch 0.65mm)
pins: 1 B, 2 E, 3 C

## BC847CDW1T1
designator Q?
Dual General Purpose Transistors, NPN, 6-Pin SOT-363, Tape and Reel; Manufacturer: On Semiconductor; PartNumber: BC847CDW1T1; Note: 0; fT Min (MHz): 100; IC Continuous (A): 0.1; Polarity: Dual NPN; DatasheetVersion: Rev. 9; PackageVersion: Rev. W, 01/2006; PackageReference: SOT-363-6-419B-02_W; PackageDescription: 6-Pin Small Outline Transistor, Body 2 x 1.25 mm, Pitch 0.65 mm; Packing: Tape and Reel; RoHS: FALSE; Mounting Technology: Surface Mount; ComponentLink1Description: Manufacturer URL; ComponentLink1URL: http://www.onsemi.com/; ComponentLink2Description: Datasheet; ComponentLink2URL: http://www.onsemi.cn/pub_link/Collateral/BC846BDW1T1-D.PDF; ComponentLink3Description: Package Specification; ComponentLink3URL: http://www.onsemi.com/pub_link/Collateral/NTJD4001N-D.PDF
footprint ONSC-SOT-363-6-419B-02_W_V (SOT23, 6-Leads, Body 2x1.25mm, Pitch 0.65mm)
part A pins: 1 E, 2 B, 6 C
part B pins: 3 C, 4 E, 5 B

## BC847CDW1T1G
designator Q?
Dual General Purpose Transistors, NPN, 6-Pin SOT-363, Pb-Free, Tape and Reel; Manufacturer: On Semiconductor; PartNumber: BC847CDW1T1G; fT Min (MHz): 100; IC Continuous (A): 0.1; Polarity: Dual NPN; DatasheetVersion: Rev. 9; PackageVersion: Rev. W, 01/2006; PackageReference: SOT-363-6-419B-02_W; PackageDescription: 6-Pin Small Outline Transistor, Body 2 x 1.25 mm, Pitch 0.65 mm; Supplier 1: Digi-Key; Supplier Part Number 1: BC847CDW1T1GOSTR-ND; Supplier 2: Digi-Key; Supplier Part Number 2: BC847CDW1T1GOSCT-ND; Supplier 3: Digi-Key; Supplier Part Number 3: BC847CDW1T1GOSDKR-ND; Supplier 4: Farnell; Supplier Part Number 4: 1887071; Supplier 5: Newark; Supplier Part Number 5: 09R9378; Supplier 6: Mouser; Supplier Part Number 6: 863-BC847CDW1T1G; Packing: Tape and Reel; RoHS: TRUE; Mounting Technology: Surface Mount; ComponentLink1Description: Manufacturer URL; ComponentLink1URL: http://www.onsemi.com/; ComponentLink2Description: Datasheet; ComponentLink2URL: http://www.onsemi.cn/pub_link/Collateral/BC846BDW1T1-D.PDF; ComponentLink3Description: Package Specification; ComponentLink3URL: http://www.onsemi.com/pub_link/Collateral/NTJD4001N-D.PDF
footprint ONSC-SOT-363-6-419B-02_W_V (SOT23, 6-Leads, Body 2x1.25mm, Pitch 0.65mm)
part A pins: 1 E, 2 B, 6 C
part B pins: 3 C, 4 E, 5 B

## BC847CDXV6T1G
designator Q?
Dual General Purpose Transistors, NPN, 6-Pin SOT-563, Pb-Free, Tape and Reel; Manufacturer: On Semiconductor; PartNumber: BC847CDXV6T1G; fT Min (MHz): 100; IC Continuous (A): 0.1; Polarity: Dual NPN; DatasheetVersion: Rev. 4; PackageVersion: Rev. F, 04/2005; PackageReference: SOT-563-6-463A-01; PackageDescription: 6-Pin Small Outline Transistor, Body 1.6 x 1.2 mm, Pitch 0.5 mm; Supplier 1: Digi-Key; Supplier Part Number 1: BC847CDXV6T1GOSTR-ND; Supplier 2: Digi-Key; Supplier Part Number 2: BC847CDXV6T1GOSCT-ND; Supplier 3: Digi-Key; Supplier Part Number 3: BC847CDXV6T1GOSDKR-ND; Supplier 4: Newark; Supplier Part Number 4: 41K9607; Supplier 5: Mouser; Supplier Part Number 5: 863-BC847CDXV6T1G; Packing: Tape and Reel; RoHS: TRUE; Mounting Technology: Surface Mount; ComponentLink1Description: Manufacturer URL; ComponentLink1URL: http://www.onsemi.com/; ComponentLink2Description: Datasheet; ComponentLink2URL: http://www.onsemi.cn/pub_link/Collateral/BC847CDXV6T1-D.PDF; ComponentLink3Description: Package Specification; ComponentLink3URL: http://www.onsemi.cn/pub_link/Collateral/463A-01.PDF
footprint ONSC-SOT-563-6-463A-01_V (SOT23, 6-Leads, Body 1.6x1.2mm, Pitch 0.5mm)
part A pins: 1 E, 2 B, 6 C
part B pins: 3 C, 4 E, 5 B

## BC847CDXV6T5
designator Q?
Dual General Purpose Transistors, NPN, 6-Pin SOT-563, Pb-Free, Tape and Reel; Manufacturer: On Semiconductor; PartNumber: BC847CDXV6T5; fT Min (MHz): 100; IC Continuous (A): 0.1; Polarity: Dual NPN; DatasheetVersion: Rev. 4; PackageVersion: Rev. F, 04/2005; PackageReference: SOT-563-6-463A-01; PackageDescription: 6-Pin Small Outline Transistor, Body 1.6 x 1.2 mm, Pitch 0.5 mm; Supplier 1: Digi-Key; Supplier Part Number 1: BC847CDXV6T5OS-ND; Supplier 2: Mouser; Supplier Part Number 2: 863-BC847CDXV6T5; Packing: Tape and Reel; RoHS: TRUE; Mounting Technology: Surface Mount; ComponentLink1Description: Manufacturer URL; ComponentLink1URL: http://www.onsemi.com/; ComponentLink2Description: Datasheet; ComponentLink2URL: http://www.onsemi.cn/pub_link/Collateral/BC847CDXV6T1-D.PDF; ComponentLink3Description: Package Specification; ComponentLink3URL: http://www.onsemi.cn/pub_link/Collateral/463A-01.PDF
footprint ONSC-SOT-563-6-463A-01_V (SOT23, 6-Leads, Body 1.6x1.2mm, Pitch 0.5mm)
part A pins: 1 E, 2 B, 6 C
part B pins: 3 C, 4 E, 5 B

## BC847CDXV6T5G
designator Q?
Dual General Purpose Transistors, NPN, 6-Pin SOT-563, Pb-Free, Tape and Reel; Manufacturer: On Semiconductor; PartNumber: BC847CDXV6T5G; fT Min (MHz): 100; IC Continuous (A): 0.1; Polarity: Dual NPN; DatasheetVersion: Rev. 4; PackageVersion: Rev. F, 04/2005; PackageReference: SOT-563-6-463A-01; PackageDescription: 6-Pin Small Outline Transistor, Body 1.6 x 1.2 mm, Pitch 0.5 mm; Supplier 1: Digi-Key; Supplier Part Number 1: BC847CDXV6T5GOS-ND; Supplier 2: Mouser; Supplier Part Number 2: 863-BC847CDXV6T5G; Packing: Tape and Reel; RoHS: TRUE; Mounting Technology: Surface Mount; ComponentLink1Description: Manufacturer URL; ComponentLink1URL: http://www.onsemi.com/; ComponentLink2Description: Datasheet; ComponentLink2URL: http://www.onsemi.cn/pub_link/Collateral/BC847CDXV6T1-D.PDF; ComponentLink3Description: Package Specification; ComponentLink3URL: http://www.onsemi.cn/pub_link/Collateral/463A-01.PDF
footprint ONSC-SOT-563-6-463A-01_V (SOT23, 6-Leads, Body 1.6x1.2mm, Pitch 0.5mm)
part A pins: 1 E, 2 B, 6 C
part B pins: 3 C, 4 E, 5 B

## BC847CLT1
designator Q?
General Purpose Transistor, NPN Silicon, 3-Pin SOT-23, Tape and Reel; Manufacturer: On Semiconductor; PartNumber: BC847CLT1; fT Min (MHz): 100; IC Continuous (A): 0.1; DatasheetVersion: Rev. 11; PackageVersion: Rev. AP, 11/2009; PackageReference: SOT-23-3-318-08; PackageDescription: 3-Pin Small Outline Transistor, Body 2.92 x 1.3 mm, Pitch 0.95 mm; Supplier 1: Digi-Key; Supplier Part Number 1: BC847CLT1OSCT-ND; Packing: Tape and Reel; Polarity: NPN; RoHS: FALSE; Mounting Technology: Surface Mount; ComponentLink1Description: Manufacturer URL; ComponentLink1URL: http://www.onsemi.com/; ComponentLink2Description: Datasheet; ComponentLink2URL: http://www.onsemi.cn/pub_link/Collateral/BC846ALT1-D.PDF; ComponentLink3Description: Package Specification; ComponentLink3URL: http://www.onsemi.cn/pub_link/Collateral/318-08.PDF
footprint ONSC-SOT-23-3-318-08_V (SOT23, 3-Leads, Body 2.92x1.3mm, Pitch 0.95mm)
pins: 1 B, 2 E, 3 C

## BC847CLT1G
designator Q?
General Purpose Transistor, NPN Silicon, 3-Pin SOT-23, Pb-Free, Tape and Reel; Manufacturer: On Semiconductor; PartNumber: BC847CLT1G; fT Min (MHz): 100; IC Continuous (A): 0.1; DatasheetVersion: Rev. 11; PackageVersion: Rev. AP, 11/2009; PackageReference: SOT-23-3-318-08; PackageDescription: 3-Pin Small Outline Transistor, Body 2.92 x 1.3 mm, Pitch 0.95 mm; Supplier 1: Digi-Key; Supplier Part Number 1: BC847CLT1GOSTR-ND; Supplier 2: Digi-Key; Supplier Part Number 2: BC847CLT1GOSCT-ND; Supplier 3: Digi-Key; Supplier Part Number 3: BC847CLT1GOSDKR-ND; Supplier 4: Farnell; Supplier Part Number 4: 2317857; Supplier 5: Farnell; Supplier Part Number 5: 1459038RL; Supplier 6: Farnell; Supplier Part Number 6: 1459038; Supplier 7: Newark; Supplier Part Number 7: 88H4569; Supplier 8: Newark; Supplier Part Number 8: 85W3117; Supplier 9: Mouser; Supplier Part Number 9: 863-BC847CLT1G; Packing: Tape and Reel; Polarity: NPN; RoHS: TRUE; Mounting Technology: Surface Mount; ComponentLink1Description: Manufacturer URL; ComponentLink1URL: http://www.onsemi.com/; ComponentLink2Description: Datasheet; ComponentLink2URL: http://www.onsemi.cn/pub_link/Collateral/BC846ALT1-D.PDF; ComponentLink3Description: Package Specification; ComponentLink3URL: http://www.onsemi.cn/pub_link/Collateral/318-08.PDF
footprint ONSC-SOT-23-3-318-08_V (SOT23, 3-Leads, Body 2.92x1.3mm, Pitch 0.95mm)
pins: 1 B, 2 E, 3 C

## BC847CLT3
designator Q?
General Purpose Transistor, NPN Silicon, 3-Pin SOT-23, Tape and Reel; Manufacturer: On Semiconductor; PartNumber: BC847CLT3; Note: 0; fT Min (MHz): 100; IC Continuous (A): 0.1; DatasheetVersion: Rev. 11; PackageVersion: Rev. AP, 11/2009; PackageReference: SOT-23-3-318-08; PackageDescription: 3-Pin Small Outline Transistor, Body 2.92 x 1.3 mm, Pitch 0.95 mm; Packing: Tape and Reel; Polarity: NPN; RoHS: FALSE; Mounting Technology: Surface Mount; ComponentLink1Description: Manufacturer URL; ComponentLink1URL: http://www.onsemi.com/; ComponentLink2Description: Datasheet; ComponentLink2URL: http://www.onsemi.cn/pub_link/Collateral/BC846ALT1-D.PDF; ComponentLink3Description: Package Specification; ComponentLink3URL: http://www.onsemi.cn/pub_link/Collateral/318-08.PDF
footprint ONSC-SOT-23-3-318-08_V (SOT23, 3-Leads, Body 2.92x1.3mm, Pitch 0.95mm)
pins: 1 B, 2 E, 3 C

## BC847CLT3G
designator Q?
General Purpose Transistor, NPN Silicon, 3-Pin SOT-23, Pb-Free, Tape and Reel; Manufacturer: On Semiconductor; PartNumber: BC847CLT3G; fT Min (MHz): 100; IC Continuous (A): 0.1; DatasheetVersion: Rev. 11; PackageVersion: Rev. AP, 11/2009; PackageReference: SOT-23-3-318-08; PackageDescription: 3-Pin Small Outline Transistor, Body 2.92 x 1.3 mm, Pitch 0.95 mm; Supplier 1: Digi-Key; Supplier Part Number 1: BC847CLT3GOSTR-ND; Supplier 2: Digi-Key; Supplier Part Number 2: BC847CLT3GOSCT-ND; Supplier 3: Digi-Key; Supplier Part Number 3: BC847CLT3GOSDKR-ND; Supplier 4: Newark; Supplier Part Number 4: 88H4570; Supplier 5: Mouser; Supplier Part Number 5: 863-BC847CLT3G; Packing: Tape and Reel; Polarity: NPN; RoHS: TRUE; Mounting Technology: Surface Mount; ComponentLink1Description: Manufacturer URL; ComponentLink1URL: http://www.onsemi.com/; ComponentLink2Description: Datasheet; ComponentLink2URL: http://www.onsemi.cn/pub_link/Collateral/BC846ALT1-D.PDF; ComponentLink3Description: Package Specification; ComponentLink3URL: http://www.onsemi.cn/pub_link/Collateral/318-08.PDF
footprint ONSC-SOT-23-3-318-08_V (SOT23, 3-Leads, Body 2.92x1.3mm, Pitch 0.95mm)
pins: 1 B, 2 E, 3 C

## BC847CWT1
designator Q?
General Purpose Transistor, NPN Silicon, 3-Pin SC70, Tape and Reel; Manufacturer: On Semiconductor; PartNumber: BC847CWT1; fT Min (MHz): 100; IC Continuous (A): 0.1; DatasheetVersion: Rev. 9; PackageVersion: Rev. N, 11/2008; PackageReference: SC-70-3-419-04; PackageDescription: 3-Pin Small Outline Transistor, Body 2 x 1.25 mm, Pitch 0.65 mm; Supplier 1: Digi-Key; Supplier Part Number 1: BC847CWT1-ND; Packing: Tape and Reel; Polarity: NPN; RoHS: FALSE; Mounting Technology: Surface Mount; ComponentLink1Description: Manufacturer URL; ComponentLink1URL: http://www.onsemi.com/; ComponentLink2Description: Datasheet; ComponentLink2URL: http://www.onsemi.cn/pub_link/Collateral/BC846AWT1-D.PDF; ComponentLink3Description: Package Specification; ComponentLink3URL: http://www.onsemi.cn/pub_link/Collateral/419-04.PDF
footprint ONSC-SC-70-3-419-04_V (SOT23, 3-Leads, Body 2x1.25mm, Pitch 0.65mm)
pins: 1 B, 2 E, 3 C

## BC847CWT1G
designator Q?
General Purpose Transistor, NPN Silicon, 3-Pin SC70, Pb-Free, Tape and Reel; Manufacturer: On Semiconductor; PartNumber: BC847CWT1G; fT Min (MHz): 100; IC Continuous (A): 0.1; DatasheetVersion: Rev. 9; PackageVersion: Rev. N, 11/2008; PackageReference: SC-70-3-419-04; PackageDescription: 3-Pin Small Outline Transistor, Body 2 x 1.25 mm, Pitch 0.65 mm; Supplier 1: Digi-Key; Supplier Part Number 1: BC847CWT1GOSTR-ND; Supplier 2: Digi-Key; Supplier Part Number 2: BC847CWT1GOSCT-ND; Supplier 3: Digi-Key; Supplier Part Number 3: BC847CWT1GOSDKR-ND; Supplier 4: Farnell; Supplier Part Number 4: 2317826; Supplier 5: Farnell; Supplier Part Number 5: 1887072; Supplier 6: Newark; Supplier Part Number 6: 09R9380; Supplier 7: Newark; Supplier Part Number 7: 45J0595; Supplier 8: Mouser; Supplier Part Number 8: 863-BC847CWT1G; Packing: Tape and Reel; Polarity: NPN; RoHS: TRUE; Mounting Technology: Surface Mount; ComponentLink1Description: Manufacturer URL; ComponentLink1URL: http://www.onsemi.com/; ComponentLink2Description: Datasheet; ComponentLink2URL: http://www.onsemi.cn/pub_link/Collateral/BC846AWT1-D.PDF; ComponentLink3Description: Package Specification; ComponentLink3URL: http://www.onsemi.cn/pub_link/Collateral/419-04.PDF
footprint ONSC-SC-70-3-419-04_V (SOT23, 3-Leads, Body 2x1.25mm, Pitch 0.65mm)
pins: 1 B, 2 E, 3 C

## BC847CWT3G
designator Q?
General Purpose Transistor, NPN Silicon, 3-Pin SC70, Pb-Free, Tape and Reel; Manufacturer: On Semiconductor; PartNumber: BC847CWT3G; fT Min (MHz): 100; IC Continuous (A): 0.1; DatasheetVersion: Rev. 9; PackageVersion: Rev. N, 11/2008; PackageReference: SC-70-3-419-04; PackageDescription: 3-Pin Small Outline Transistor, Body 2 x 1.25 mm, Pitch 0.65 mm; Supplier 1: Digi-Key; Supplier Part Number 1: BC847CWT3G-ND; Supplier 2: Mouser; Supplier Part Number 2: 863-BC847CWT3G; Packing: Tape and Reel; Polarity: NPN; RoHS: TRUE; Mounting Technology: Surface Mount; ComponentLink1Description: Manufacturer URL; ComponentLink1URL: http://www.onsemi.com/; ComponentLink2Description: Datasheet; ComponentLink2URL: http://www.onsemi.cn/pub_link/Collateral/BC846AWT1-D.PDF; ComponentLink3Description: Package Specification; ComponentLink3URL: http://www.onsemi.cn/pub_link/Collateral/419-04.PDF
footprint ONSC-SC-70-3-419-04_V (SOT23, 3-Leads, Body 2x1.25mm, Pitch 0.65mm)
pins: 1 B, 2 E, 3 C

## BC848ALT1
designator Q?
General Purpose Transistor, NPN Silicon, 3-Pin SOT-23, Tape and Reel; Manufacturer: On Semiconductor; PartNumber: BC848ALT1; fT Min (MHz): 100; IC Continuous (A): 0.1; DatasheetVersion: Rev. 11; PackageVersion: Rev. AP, 11/2009; PackageReference: SOT-23-3-318-08; PackageDescription: 3-Pin Small Outline Transistor, Body 2.92 x 1.3 mm, Pitch 0.95 mm; Supplier 1: Digi-Key; Supplier Part Number 1: BC848ALT1OSCT-ND; Packing: Tape and Reel; Polarity: NPN; RoHS: FALSE; Mounting Technology: Surface Mount; ComponentLink1Description: Manufacturer URL; ComponentLink1URL: http://www.onsemi.com/; ComponentLink2Description: Datasheet; ComponentLink2URL: http://www.onsemi.cn/pub_link/Collateral/BC846ALT1-D.PDF; ComponentLink3Description: Package Specification; ComponentLink3URL: http://www.onsemi.cn/pub_link/Collateral/318-08.PDF
footprint ONSC-SOT-23-3-318-08_V (SOT23, 3-Leads, Body 2.92x1.3mm, Pitch 0.95mm)
pins: 1 B, 2 E, 3 C

## BC848ALT1G
designator Q?
General Purpose Transistor, NPN Silicon, 3-Pin SOT-23, Pb-Free, Tape and Reel; Manufacturer: On Semiconductor; PartNumber: BC848ALT1G; fT Min (MHz): 100; IC Continuous (A): 0.1; DatasheetVersion: Rev. 11; PackageVersion: Rev. AP, 11/2009; PackageReference: SOT-23-3-318-08; PackageDescription: 3-Pin Small Outline Transistor, Body 2.92 x 1.3 mm, Pitch 0.95 mm; Supplier 1: Digi-Key; Supplier Part Number 1: BC848ALT1GOSTR-ND; Supplier 2: Digi-Key; Supplier Part Number 2: BC848ALT1GOSCT-ND; Supplier 3: Digi-Key; Supplier Part Number 3: BC848ALT1GOSDKR-ND; Supplier 4: Farnell; Supplier Part Number 4: 2317852; Supplier 5: Newark; Supplier Part Number 5: 10N9390; Supplier 6: Mouser; Supplier Part Number 6: 863-BC848ALT1G; Packing: Tape and Reel; Polarity: NPN; RoHS: TRUE; Mounting Technology: Surface Mount; ComponentLink1Description: Manufacturer URL; ComponentLink1URL: http://www.onsemi.com/; ComponentLink2Description: Datasheet; ComponentLink2URL: http://www.onsemi.cn/pub_link/Collateral/BC846ALT1-D.PDF; ComponentLink3Description: Package Specification; ComponentLink3URL: http://www.onsemi.cn/pub_link/Collateral/318-08.PDF
footprint ONSC-SOT-23-3-318-08_V (SOT23, 3-Leads, Body 2.92x1.3mm, Pitch 0.95mm)
pins: 1 B, 2 E, 3 C

## BC848BLT1
designator Q?
General Purpose Transistor, NPN Silicon, 3-Pin SOT-23, Tape and Reel; Manufacturer: On Semiconductor; PartNumber: BC848BLT1; fT Min (MHz): 100; IC Continuous (A): 0.1; DatasheetVersion: Rev. 11; PackageVersion: Rev. AP, 11/2009; PackageReference: SOT-23-3-318-08; PackageDescription: 3-Pin Small Outline Transistor, Body 2.92 x 1.3 mm, Pitch 0.95 mm; Supplier 1: Digi-Key; Supplier Part Number 1: BC848BLT1OSCT-ND; Packing: Tape and Reel; Polarity: NPN; RoHS: FALSE; Mounting Technology: Surface Mount; ComponentLink1Description: Manufacturer URL; ComponentLink1URL: http://www.onsemi.com/; ComponentLink2Description: Datasheet; ComponentLink2URL: http://www.onsemi.cn/pub_link/Collateral/BC846ALT1-D.PDF; ComponentLink3Description: Package Specification; ComponentLink3URL: http://www.onsemi.cn/pub_link/Collateral/318-08.PDF
footprint ONSC-SOT-23-3-318-08_V (SOT23, 3-Leads, Body 2.92x1.3mm, Pitch 0.95mm)
pins: 1 B, 2 E, 3 C